# Altium footprint library SOP50P310X90-8L15N.PcbLib: 1 footprints
Each footprint in its own frame and in the unit in brackets; x right, y up, seen from the top. Pads: shape width x height; smd on the part's side, far side on the other; paste and mask are expansions set on the pad; w line width, h text height; cw(c..) or ccw(c..) is an arc to the next point about the centre after c.
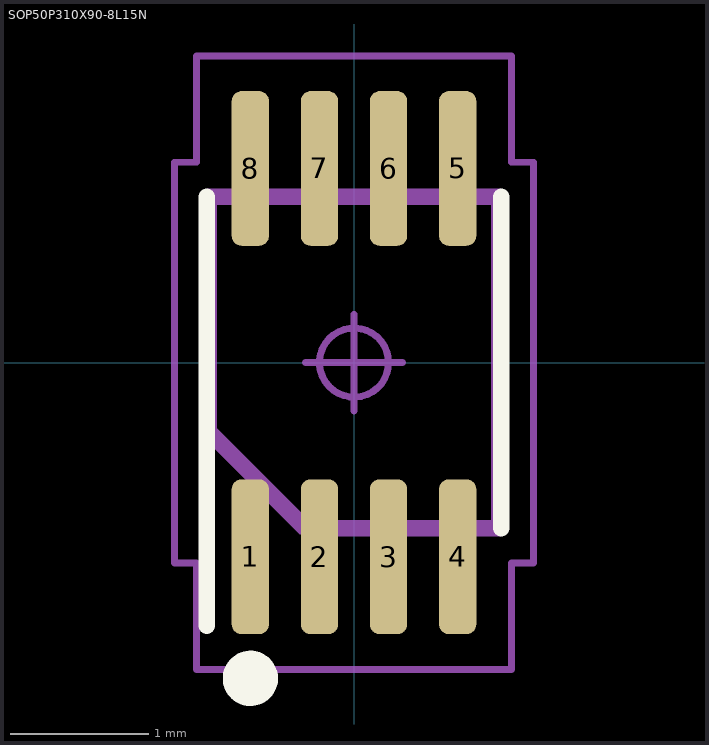
[diagram p0: the footprint, top view; thin cyan lines are the x and y axes]

## SOP50P310X90-8L15N [mm] "Small Outline Pkg (SOP), 0.50 mm pitch; 8 pin, 2.00 mm L X 2.30 mm W X 0.90 mm H body"
height 0.9
pads (8):
  rrect52% 0.27x1.12 smd: 1(-0.75,-1.405) 2(-0.25,-1.405) 3(0.25,-1.405) 4(0.75,-1.405) 5(0.75,1.405) 6(0.25,1.405) 7(-0.25,1.405) 8(-0.75,1.405)
Top Overlay:
  circle w0.2: c-0.75,-2.285 r0.1
  lines w0.12: -1.065,-1.905 -1.065,1.2 ; 1.065,-1.2 1.065,1.2
Fab - Detail1, HDI1:
  lines w0.12: -1.05,-0.5 -1.05,1.2 1.05,1.2 1.05,-1.2 -0.35,-1.2 -1.05,-0.5
Courtyards/Models - Top:
  circle w0.05: c0,0 r0.25
  lines w0.05: -0.35,0 0.35,0 ; 0,-0.35 0,0.35 ; -1.3,-1.45 -1.3,1.45 -1.14,1.45 -1.14,2.22 1.14,2.22 1.14,1.45 1.3,1.45 1.3,-1.45 1.14,-1.45 1.14,-2.22 -1.14,-2.22 -1.14,-1.45 -1.3,-1.45
3D body "TI_DCU.STEP": height 0.9, standoff 0, extent -1,-1.553 1,1.553